# EAGLE library part MICRO_SD (library sd_tos)
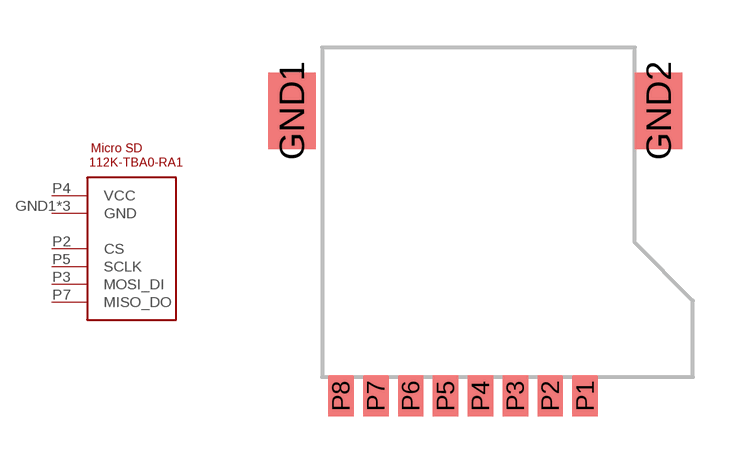
[diagram p3: symbol with the pads of MICRO_SD; footprint MICRO_SD]

Designator prefix -

## MICRO_SD  [MICRO_SD]
GND1  GND  pwr
GND2  GND  pwr
P2  CS  in
P3  MOSI_DI  in
P4  VCC  pwr
P5  SCLK  in
P6  GND  pwr
P7  MISO_DO  out

## Footprint MICRO_SD (pad centres in mm)
smd 1.5 x 2.4: GND1 -5.952,9; GND2 5.617,9
smd 0.8 x 1.3: P1 3.3,0; P2 2.2,0; P3 1.1,0; P4 0,0; P5 -1.1,0; P6 -2.2,0; P7 -3.3,0; P8 -4.4,0